# EAGLE library part HEADER-08P-1R (library deiring-components)
Header 8 Pin 1 Row
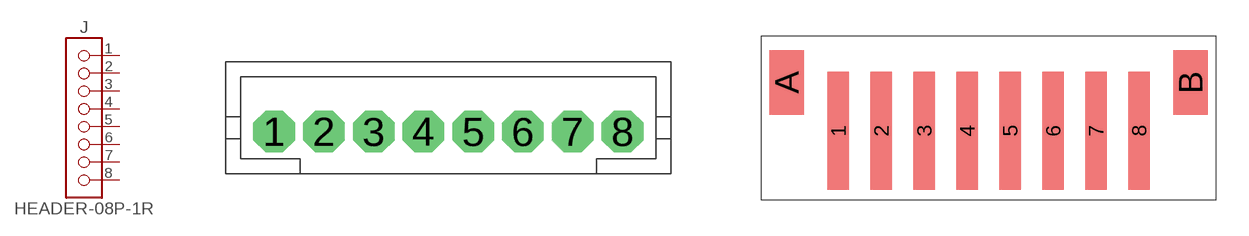
[diagram p19: symbol with the pads of JST-B8B-PH-K-S; footprints JST-B8B-PH-K-S, JST-B8B-PH-SM4-TB]

Designator prefix J

## HEADER-08P-1R-B8B-PH-K-S (LCSC: C157974; MF: JST Sales America; MPN: B8B-PH-K-S(LF)(SN); VALUE: 8P)  [JST-B8B-PH-K-S]
1  01  pas
2  02  pas
3  03  pas
4  04  pas
5  05  pas
6  06  pas
7  07  pas
8  08  pas

## HEADER-08P-1R-B8B-PH-SM4-TB (LCSC: C495548; MF: JST Sales America; MPN: B8B-PH-SM4-TB(LF)(SN); VALUE: 8P)  [JST-B8B-PH-SM4-TB]
Pads as for JST-B8B-PH-K-S

## HEADER-08P-1R-S8B-PH-K-S (LCSC: C157915; MF: JST Sales America; MPN: S8B-PH-K-S(LF)(SN); VALUE: 8P)  [JST-S8B-PH-K-S]
Pads as for JST-B8B-PH-K-S

## HEADER-08P-1R-S8B-PH-SM4-TB (LCSC: C265121; MF: JST Sales America; MPN: S8B-PH-SM4-TB(LF)(SN); VALUE: 8P)  [JST-S8B-PH-SM4-TB]
Pads as for JST-B8B-PH-K-S

## HEADER-08P-1R-KF2EDGV-5.08-8P (LCSC: C441360; MF: Cixi Kefa Elec; MPN: KF2EDGV-5.08-8P; VALUE: 8P)  [KF2EDGV-5.08-8P]
Pads as for JST-B8B-PH-K-S

## HEADER-08P-1R-WJ15EDGVC-3.81-8P (LCSC: C31930; MF: Ningbo Kangnex Elec; MPN: WJ15EDGVC-3.81-8P; VALUE: 8P)  [WJ15EDGVC-3.81-8P]
Pads as for JST-B8B-PH-K-S

## HEADER-08P-1R-KF2EDGR-5.08-8P (LCSC: C441210; MF: Cixi Kefa Elec; MPN: KF2EDGR-5.08-8P; VALUE: 8P)  [KF2EDGR-5.08-8P]
Pads as for JST-B8B-PH-K-S

## Footprint JST-B8B-PH-K-S (pad centres in mm)
drill 0.813 pad 1.676 octagon: 1 -7,0; 2 -5,0; 3 -3,0; 4 -1,0; 5 1,0; 6 3,0; 7 5,0; 8 7,0

## Footprint JST-B8B-PH-SM4-TB (pad centres in mm)
smd 1 x 5.5: 1 -7,0; 2 -5,0; 3 -3,0; 4 -1,0; 5 1,0; 6 3,0; 7 5,0; 8 7,0
smd 1.6 x 3: A -9.4,2.25; B 9.4,2.25

## Footprint JST-S8B-PH-K-S (pad centres in mm)
drill 0.813 pad 1.676 octagon: 1 -7,0; 2 -5,0; 3 -3,0; 4 -1,0; 5 1,0; 6 3,0; 7 5,0; 8 7,0

## Footprint JST-S8B-PH-SM4-TB (pad centres in mm)
smd 1 x 3.5: 1 -7,0; 2 -5,0; 3 -3,0; 4 -1,0; 5 1,0; 6 3,0; 7 5,0; 8 7,0
smd 1.5 x 3.4: A -9.35,5.55; B 9.35,5.55

## Footprint KF2EDGV-5.08-8P (pad centres in mm)
drill 1.6: 1 -17.78,0; 2 -12.7,0; 3 -7.62,0; 4 -2.54,0; 5 2.54,0; 6 7.62,0; 7 12.7,0; 8 17.78,0

## Footprint WJ15EDGVC-3.81-8P (pad centres in mm)
drill 1.2 pad 2: 1 -13.335,0; 2 -9.525,0; 3 -5.715,0; 4 -1.905,0; 5 1.905,0; 6 5.715,0; 7 9.525,0; 8 13.335,0

## Footprint KF2EDGR-5.08-8P (pad centres in mm)
drill 1.6: 1 -17.78,0; 2 -12.7,0; 3 -7.62,0; 4 -2.54,0; 5 2.54,0; 6 7.62,0; 7 12.7,0; 8 17.78,0